# EAGLE library part DVI-I-R (library con-molex)
CONNECTOR MiroCross(TM)-DVI i/0 plug and receptacle connector system (scart)
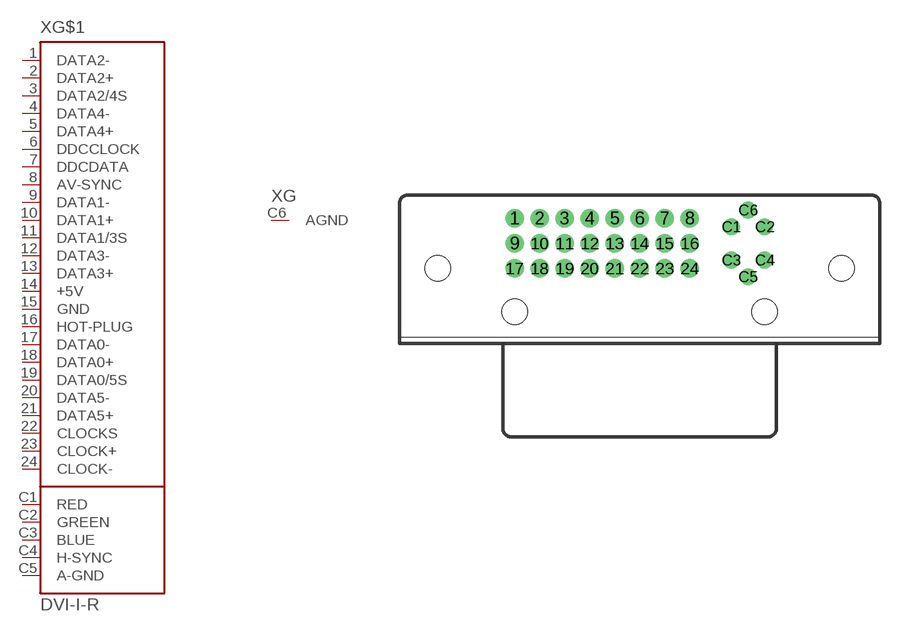
[diagram p30: symbol with the pads of DVI-I-R; footprint DVI-I-R]

Designator prefix X; gates G$1=DVI-I G=AGND

## DVI-I-R (MF: MOLEX; OC_FARNELL: unknown; OC_NEWARK: unknown)  [DVI-I-R]
1  G$1:DATA2-  pas
2  G$1:DATA2+  pas
3  G$1:DATA2/4S  pas
4  G$1:DATA4-  pas
5  G$1:DATA4+  pas
6  G$1:DDCCLOCK  pas
7  G$1:DDCDATA  pas
8  G$1:AV-SYNC  pas
9  G$1:DATA1-  pas
10  G$1:DATA1+  pas
11  G$1:DATA1/3S  pas
12  G$1:DATA3-  pas
13  G$1:DATA3+  pas
14  G$1:+5V  pwr
15  G$1:GND  pwr
16  G$1:HOT-PLUG  pas
17  G$1:DATA0-  pas
18  G$1:DATA0+  pas
19  G$1:DATA0/5S  pas
20  G$1:DATA5-  pas
21  G$1:DATA5+  pas
22  G$1:CLOCKS  pas
23  G$1:CLOCK+  pas
24  G$1:CLOCK-  pas
C1  G$1:RED  pas
C2  G$1:GREEN  pas
C3  G$1:BLUE  pas
C4  G$1:H-SYNC  pas
C5  G$1:A-GND  pwr
C6  G:AGND  pwr

## Footprint DVI-I-R (pad centres in mm)
CONNECTOR MiroCross(TM)-DVI i/0 plug and receptacle connector system (scart)
drill 0.864 pad 1.397: 1 -9.525,6.985; 2 -7.62,6.985; 3 -5.715,6.985; 4 -3.81,6.985; 5 -1.905,6.985; 6 0,6.985; 7 1.905,6.985; 8 3.81,6.985; 9 -9.525,5.08; 10 -7.62,5.08; 11 -5.715,5.08; 12 -3.81,5.08; 13 -1.905,5.08; 14 0,5.08; 15 1.905,5.08; 16 3.81,5.08; 17 -9.525,3.175; 18 -7.62,3.175; 19 -5.715,3.175; 20 -3.81,3.175; 21 -1.905,3.175; 22 0,3.175; 23 1.905,3.175; 24 3.81,3.175
drill 0.66 pad 1.27: C1 6.985,6.35; C2 9.525,6.35; C3 6.985,3.81; C4 9.525,3.81; C5 8.255,2.54; C6 8.255,7.62
hole 1.93 at -15.367,3.175
hole 1.93 at 15.367,3.175
hole 1.93 at -9.525,-0.127
hole 1.93 at 9.525,-0.127